# EAGLE library part OP07 (library IC)
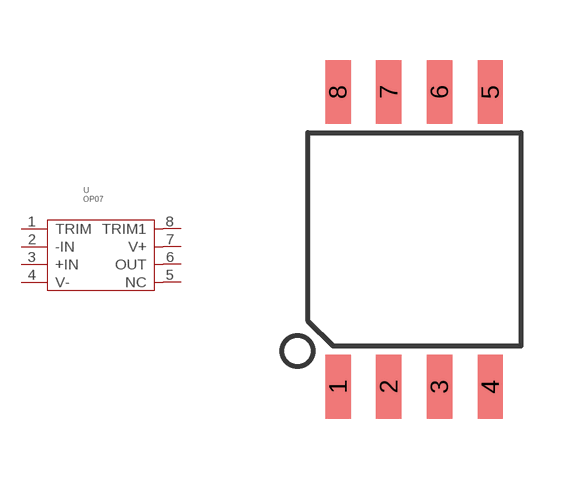
[diagram p156: symbol with the pads of SOIC8; footprint SOIC8]

Designator prefix U

## OP07-SOIC8  [SOIC8]
1  TRIM
2  -IN  in
3  +IN  in
4  V-  sup
5  NC  nc
6  OUT  out
7  V+  sup
8  TRIM1

## Footprint SOIC8 (pad centres in mm)
smd 0.635 x 1.6: 1 -1.905,-3.683; 2 -0.635,-3.683; 3 0.635,-3.683; 4 1.905,-3.683; 5 1.905,3.683; 6 0.635,3.683; 7 -0.635,3.683; 8 -1.905,3.683